# Altium footprint library KN2CLib.PcbLib: 180 footprints (part 11 of 12)
Each footprint in its own frame and in the unit in brackets; x right, y up, seen from the top. Pads: shape width x height; smd on the part's side, far side on the other; paste and mask are expansions set on the pad; w line width, h text height; cw(c..) or ccw(c..) is an arc to the next point about the centre after c.
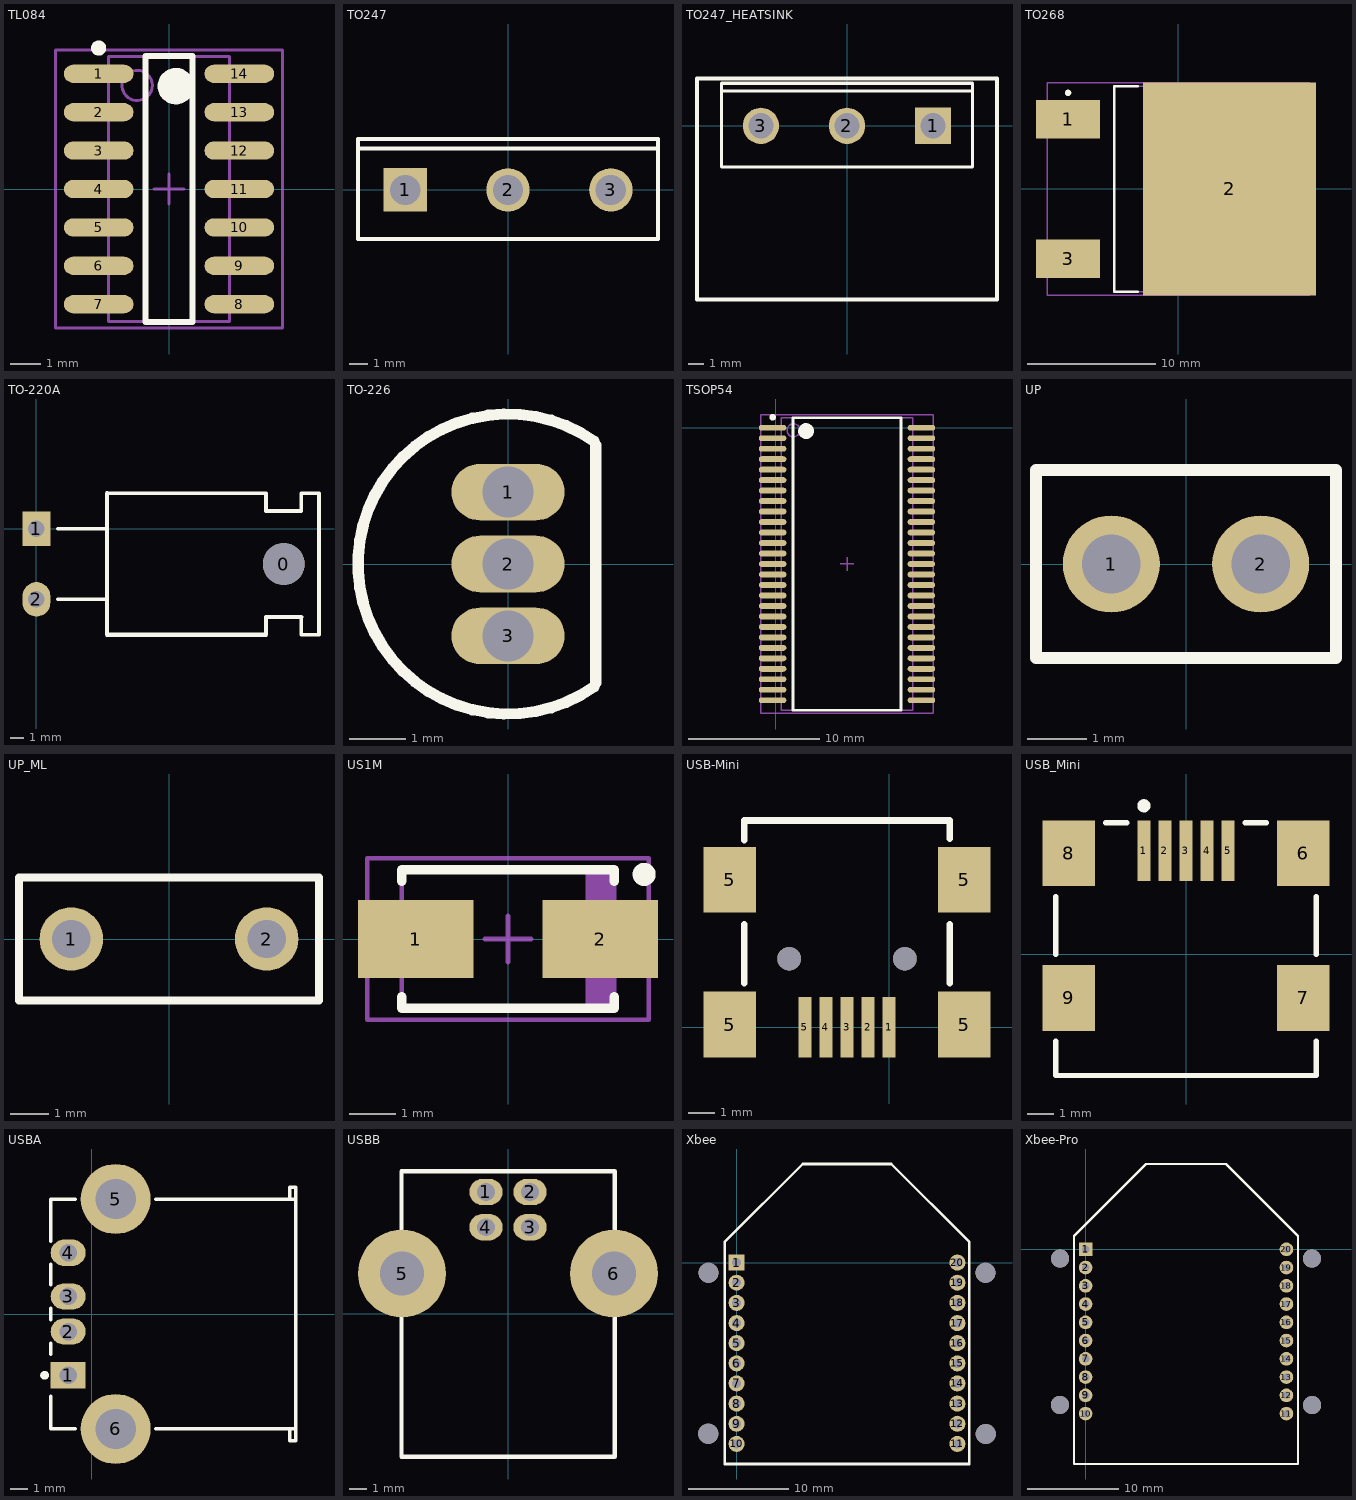
[diagram p10: the footprints below, top view; thin cyan lines are the x and y axes]

## TL084 [mm] "SOP, 14-Leads, Body 8.8x4.0mm (max), Pitch 1.27mm, IPC Medium Density"
height 2.65
pads (14):
  oval 2.3x0.6 smd: 1(-2.325,3.81) 2(-2.325,2.54) 3(-2.325,1.27) 4(-2.325,0) 5(-2.325,-1.27) 6(-2.325,-2.54) 7(-2.325,-3.81) 8(2.325,-3.81) 9(2.325,-2.54) 10(2.325,-1.27) 11(2.325,0) 12(2.325,1.27) 13(2.325,2.54) 14(2.325,3.81)
Top Overlay:
  circle w0.6: c0.225,3.4 r0.3
  circle w0.25: c-2.325,4.66 r0.125
  lines w0.2: -0.775,-4.4 0.775,-4.4 0.775,4.4 -0.775,4.4 -0.775,-4.4
Mechanical 13:
  circle w0.1: c-1.05,3.425 r0.5
  lines w0.1: -2,-4.375 2,-4.375 2,4.375 -2,4.375 -2,-4.375
Mechanical 15:
  lines w0.1: -0.5,0 0.5,0 ; 0,-0.5 0,0.5 ; -3.75,-4.6 3.75,-4.6 3.75,4.6 -3.75,4.6 -3.75,-4.6
3D body: height 2.65, standoff 0.1, extent -2,-4.375 2,4.375

## TO247 [mm] "SIP with Mounting Hole; 3 Leads; Body 20 x 15.6 x 5 mm (typ); Pitch 5.45 mm"
height 24.5
pads (3):
  rect 2.3x2.3 hole 1.6: 1(-5.45,0)
  round 2.3 hole 1.6: 2(0,0) 3(5.45,0)
Top Overlay:
  lines w0.2: -7.95,2.2 7.95,2.2 ; -7.95,-2.6 -7.95,2.7 7.95,2.7 7.95,-2.6 -7.95,-2.6

## TO247_HEATSINK [mm] "SIP with Mounting Hole; 3 Leads; Body 20 x 15.6 x 5 mm (typ); Pitch 5.45 mm"
height 24.5
pads (3):
  rect 2.3x2.3 hole 1.6: 1(5.45,0)
  round 2.3 hole 1.6: 2(0,0) 3(-5.45,0)
Top Overlay:
  lines w0.2: -7.95,2.2 7.95,2.2 ; -7.95,-2.6 7.95,-2.6 7.95,2.7 -7.95,2.7 -7.95,-2.6
  lines w0.254: -9.5,-11 -9.5,3 9.5,3 9.5,-11 -9.5,-11

## TO268 [mm] "D3-PAK, 3-Pads, Body 14.0x16.0mm (max), IPC Medium Density"
height 5.1
pads (3):
  rect 5x3 smd: 1(-8.6,5.45) 3(-8.6,-5.45)
  rect 13.5x16.6 smd: 2(4,0)
Top Overlay:
  circle w0.25: c-8.6,7.5 r0.125
  lines w0.2: -3.15,-8 -5,-8 -5,8 -3.15,8
Mechanical 13:
  lines w0.1: -5,-8.025 9,-8.025 9,8.025 -5,8.025 -5,-8.025
Mechanical 15:
  lines w0.1: -0.5,0 0.5,0 ; 0,-0.5 0,0.5 ; -10.225,-8.3 10.225,-8.3 10.225,8.3 -10.225,8.3 -10.225,-8.3
3D body: height 5.1, standoff 0.2, extent -5,-8.025 9,8.025

## TO-220A [mm]
pads (3):
  round 3 hole 3: 0(17.78,-2.54)
  rect 2x2.5 hole 1.2: 1(0,0)
  oval 2x2.5 hole 1.2: 2(0,-5.08)
Top Overlay:
  lines w0.254: 1.524,-5.08 5.08,-5.08 ; 1.524,0 5.08,0 ; 5.08,2.54 16.51,2.54 16.51,1.27 19.05,1.27 19.05,2.54 20.32,2.54 20.32,-7.62 19.05,-7.62 19.05,-6.35
  lines w0.305: 5.08,2.54 5.08,-7.62 16.51,-7.62 16.51,-6.35 19.05,-6.35

## TO-226 [mm] "TO, Flat Index; 3 In-Line, Axial Leads; Body Dia. 4.8mm; Leads 0.55 x 0.51 mm (max)"
height 5.33
pads (3):
  oval 2x1 hole 0.9: 1(0,1.27) 2(0,0) 3(0,-1.27)
Top Overlay:
  lines w0.2: 1.52,-2.171 cw(c0,0) 1.52,2.171 ; 1.55,-2.1 1.55,2.1

## TSOP54 [mm] "TSOP, 54-Leads, Body 22.3x10.1mm (max), Pitch 0.80mm, IPC Medium Density"
height 1.5
pads (54):
  oval 2.1x0.45 smd: 1(-0.254,0) 2(-0.254,-0.8) 3(-0.254,-1.6) 4(-0.254,-2.4) 5(-0.254,-3.2) 6(-0.254,-4) 7(-0.254,-4.8) 8(-0.254,-5.6) 9(-0.254,-6.4) 10(-0.254,-7.2) 11(-0.254,-8) 12(-0.254,-8.8) 13(-0.254,-9.6) 14(-0.254,-10.4) 15(-0.254,-11.2) 16(-0.254,-12) 17(-0.254,-12.8) 18(-0.254,-13.6) 19(-0.254,-14.4) 20(-0.254,-15.2) 21(-0.254,-16) 22(-0.254,-16.8) 23(-0.254,-17.6) 24(-0.254,-18.4) 25(-0.254,-19.2) 26(-0.254,-20) 27(-0.254,-20.8) 28(11.104,-20.8) 29(11.104,-20) 30(11.104,-19.2) 31(11.104,-18.4) 32(11.104,-17.6) 33(11.104,-16.8) 34(11.104,-16) 35(11.104,-15.2) 36(11.104,-14.4) 37(11.104,-13.6) 38(11.104,-12.8) 39(11.104,-12) 40(11.104,-11.2) 41(11.104,-10.4) 42(11.104,-9.6) 43(11.104,-8.8) 44(11.104,-8) 45(11.104,-7.2) 46(11.104,-6.4) 47(11.104,-5.6) 48(11.104,-4.8) 49(11.104,-4) 50(11.104,-3.2) 51(11.104,-2.4) 52(11.104,-1.6) 53(11.104,-0.8) 54(11.104,0)
Top Overlay:
  circle w0.25: c-0.254,0.8 r0.125
  circle w0.6: c2.3,-0.25 r0.3
  lines w0.2: 1.3,-21.55 1.3,0.75 9.55,0.75 9.55,-21.55 1.3,-21.55
Mechanical 13:
  circle w0.1: c1.345,-0.195 r0.5
  lines w0.1: 0.395,-21.555 0.395,0.755 10.455,0.755 10.455,-21.555 0.395,-21.555
Mechanical 15:
  lines w0.1: 4.925,-10.4 5.925,-10.4 ; 5.425,-10.9 5.425,-9.9 ; -1.15,-21.8 -1.15,1 12,1 12,-21.8 -1.15,-21.8
3D body: height 1.5, standoff 0.1, extent 0.395,-21.555 10.455,0.755

## UP [mm]
pads (2):
  round 1.65 hole 1: 1(-1.27,0) 2(1.27,0)
Top Overlay:
  lines w0.2: -2.55,-1.6 -2.55,1.6 2.55,1.6 2.55,-1.6 -2.55,-1.6

## UP_ML [mm]
pads (2):
  round 1.65 hole 1: 1(-2.54,0) 2(2.54,0)
Top Overlay:
  lines w0.2: -3.9,-1.6 3.9,-1.6 3.9,1.6 -3.9,1.6 -3.9,-1.6

## US1M [mm] "Molded Diode, 2-Leads, Body 4.3x2.6mm, IPC Medium Density"
height 2.3
pads (2):
  rect 2.5x1.7 smd: 1(-2,0) 2(2,0)
Top Overlay:
  circle w0.25: c2.95,1.4 r0.125
  lines w0.2: -2.3,-1.25 -2.3,-1.5 2.3,-1.5 2.3,-1.25 ; -2.3,1.25 -2.3,1.5 2.3,1.5 2.3,1.25
Mechanical 13:
  rectangle: 1.681,-1.46 2.3,1.46
  lines w0.1: -2.3,-1.46 2.3,-1.46 2.3,1.46 -2.3,1.46 -2.3,-1.46
Mechanical 15:
  lines w0.1: -0.5,0 0.5,0 ; 0,-0.5 0,0.5 ; -3.05,-1.75 3.05,-1.75 3.05,1.75 -3.05,1.75 -3.05,-1.75
3D body: height 2.3, standoff 0, extent -2.3,-1.46 2.3,1.46

## USB-Mini [mm]
pads (11):
  rect 0.5x2.3 smd: 1(0,0) 2(-0.8,0) 3(-1.6,0) 4(-2.4,0) 5(-3.2,0)
  rect 2x2.5 smd: 5(-6.05,0.1) 5(-6.05,5.6) 5(2.85,0.1) 5(2.85,5.6)
  round 0.9 hole 0.9 unplated: ""(-3.8,2.6) ""(0.6,2.6)
Top Overlay:
  lines w0.254: -5.5,1.663 -5.5,3.913 ; -5.5,7.113 -5.5,7.85 2.3,7.85 2.3,7.163 ; 2.3,1.663 2.3,3.913
3D body: height 4.14, standoff -0.95, extent -6.55,-0.738 3.35,8.463

## USB_Mini [mm]
pads (9):
  rect 0.5x2.3 smd: 1(-1.6,3.95) 2(-0.8,3.95) 3(0,3.95) 4(0.8,3.95) 5(1.6,3.95)
  rect 2x2.5 smd: 6(4.45,3.85) 7(4.45,-1.65) 8(-4.45,3.85) 9(-4.45,-1.65)
Top Overlay:
  circle w0.25: c-1.6,5.65 r0.125
  lines w0.2: -4.95,-3.3 -4.95,-4.6 4.95,-4.6 4.95,-3.3 ; -4.95,0 -4.95,2.2 ; -3.05,5 -2.25,5 ; 2.25,5 3.05,5 ; 4.95,0 4.95,2.2

## USBA [mm] "Connector; USB1.1, Type A, Thru-Hole; 4 Position; Right Angle"
height 7.01
pads (6):
  rect 2x1.5 hole 1: 1(-1.355,-3.5)
  oval 2x1.5 hole 1: 2(-1.355,-1) 3(-1.355,1) 4(-1.355,3.5)
  round 4 hole 2.3: 5(1.355,6.57) 6(1.355,-6.57)
Top Overlay:
  circle w0.25: c-2.705,-3.5 r0.125
  lines w0.2: -2.365,-4.7 -2.365,-6.565 -0.945,-6.565 ; -2.365,-2.3 -2.365,-1.66 ; -2.365,-0.34 -2.365,0.34 ; -2.365,1.66 -2.365,2.84 ; -2.365,4.16 -2.365,6.565 -0.945,6.565 ; 3.655,-6.565 11.635,-6.565 ; 3.655,6.565 11.635,6.565 ; 11.315,-6.565 11.315,-7.25 11.635,-7.25 11.635,-6.565 ; 11.315,6.565 11.315,7.25 11.635,7.25 11.635,6.565 ; 11.635,-6.565 11.635,6.565

## USBB [mm]
pads (6):
  oval 1.9x1.5 hole 1: 1(-1.25,6.93) 2(1.25,6.93) 3(1.25,4.93) 4(-1.25,4.93)
  round 5 hole 2.5: 5(-6.02,2.3) 6(6.02,2.3)
Top Overlay:
  lines w0.254: -6.05,-8.1 6.05,-8.1 6.05,8.1 -6.05,8.1 -6.05,-8.1

## Xbee [mm]
pads (24):
  rect 1.6x1.6 hole 0.9: 1(0,0)
  round 1.6 hole 0.9: 2(0,-2.007) 3(0,-4.013) 4(0,-6.02) 5(0,-8.026) 6(0,-10.033) 7(0,-12.04) 8(0,-14.046) 9(0,-16.053) 10(0,-18.059) 11(21.996,-18.059) 12(21.996,-16.053) 13(21.996,-14.046) 14(21.996,-12.04) 15(21.996,-10.033) 16(21.996,-8.026) 17(21.996,-6.02) 18(21.996,-4.013) 19(21.996,-2.007) 20(21.996,0)
  round 2 hole 2: ""(-2.819,-17.043) ""(-2.794,-1.016) ""(24.79,-1.016) ""(24.816,-17.069)
Top Overlay:
  lines w0.254: -1.194,-20.059 -1.194,2.032 6.591,9.817 15.405,9.817 23.19,2.032 23.19,-20.059 -1.194,-20.059
3D body: height 6.8, standoff 4, extent -1.194,-20.066 23.216,9.804

## Xbee-Pro [mm]
pads (24):
  rect 1.5x1.5 hole 0.8: 1(0,0)
  round 1.5 hole 0.8: 2(0,-2) 3(0,-4) 4(0,-6) 5(0,-8) 6(0,-10) 7(0,-12) 8(0,-14) 9(0,-16) 10(0,-18) 11(22,-18) 12(22,-16) 13(22,-14) 14(22,-12) 15(22,-10) 16(22,-8) 17(22,-6) 18(22,-4) 19(22,-2) 20(22,0)
  round 2 hole 2: ""(-2.819,-17.043) ""(-2.794,-1.016) ""(24.79,-1.016) ""(24.816,-17.069)
Top Overlay:
  lines w0.254: -1.27,1.473 6.604,9.347 15.418,9.347 ; -1.27,1.5 -1.27,-23.52 23.241,-23.52 ; 15.392,9.347 23.266,1.473 ; 23.266,-23.52 23.266,1.5
3D body: height 6.8, standoff 4, extent -1.295,-23.52 23.241,9.373